# Altium footprint library PLS-xx.PcbLib: 32 footprints (part 1 of 2)
Each footprint in its own frame and in the unit in brackets; x right, y up, seen from the top. Pads: shape width x height; smd on the part's side, far side on the other; paste and mask are expansions set on the pad; w line width, h text height; cw(c..) or ccw(c..) is an arc to the next point about the centre after c.
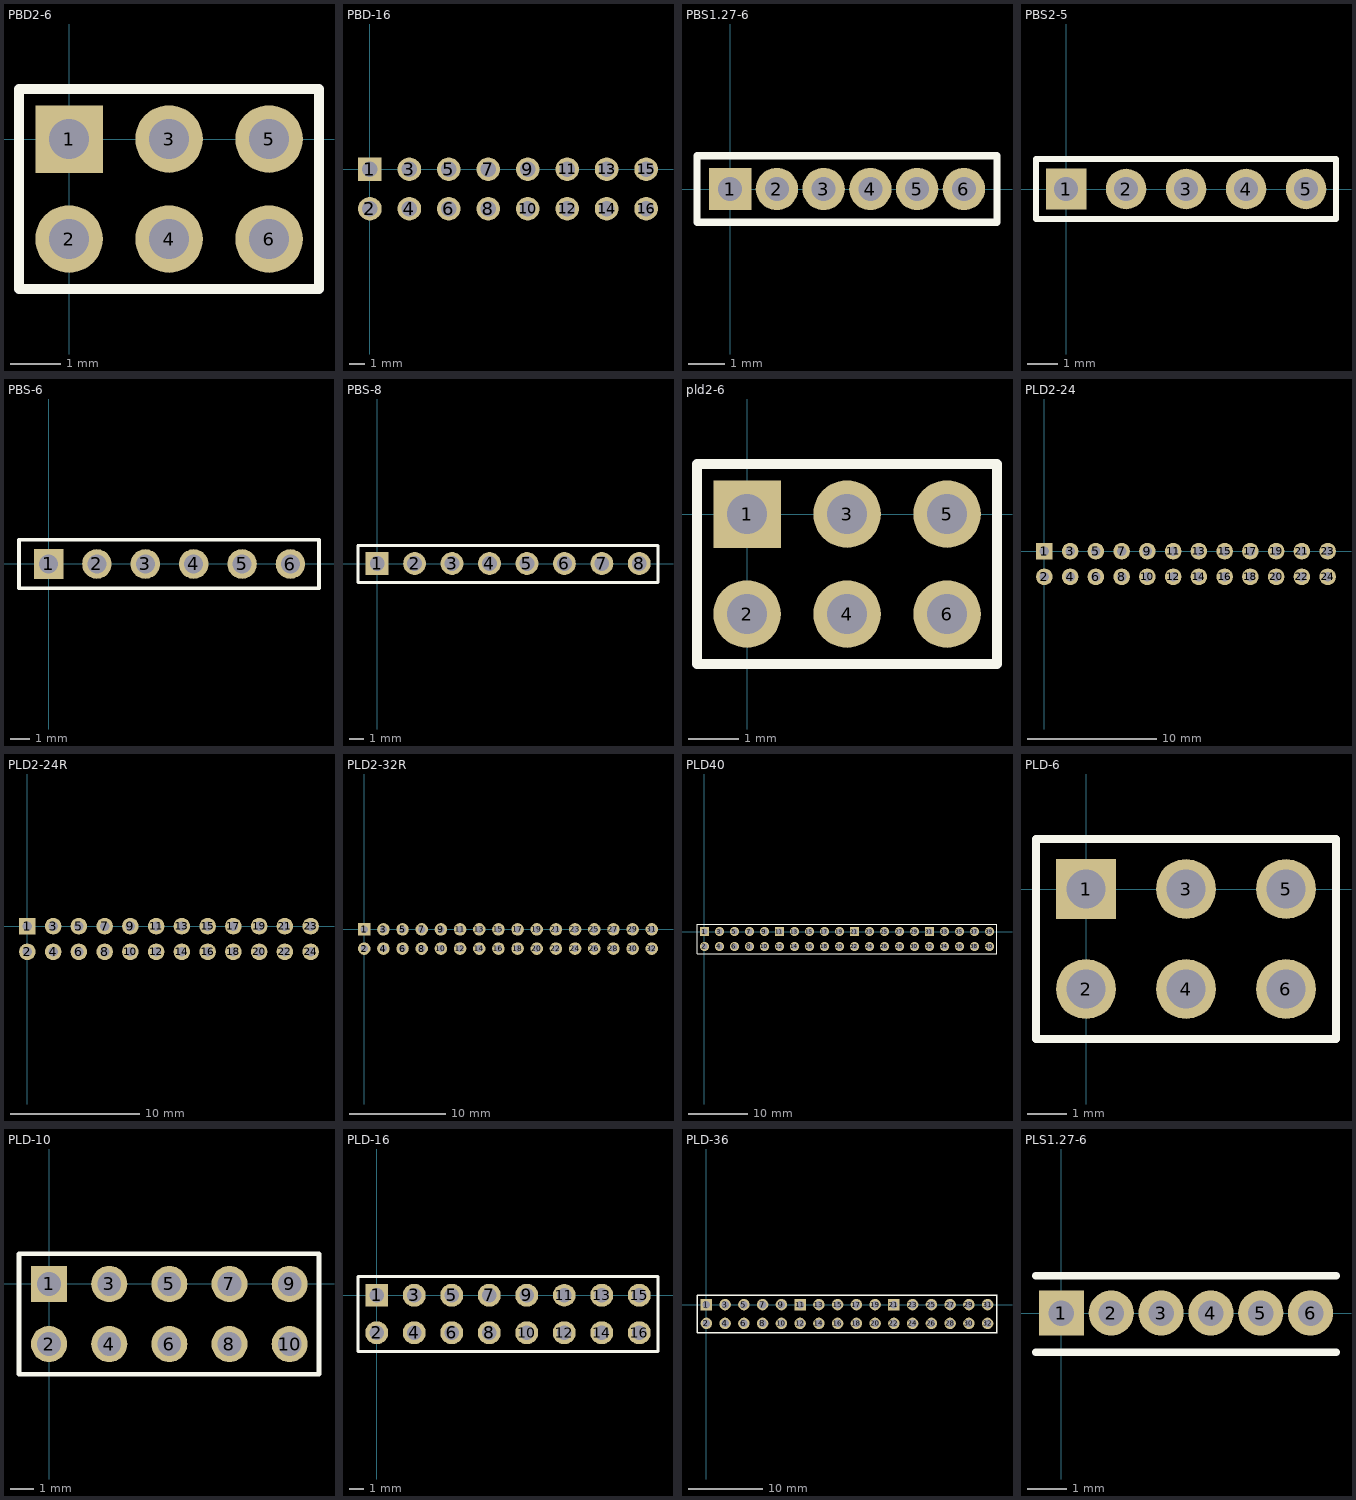
[diagram p0: the footprints below, top view; thin cyan lines are the x and y axes]

## PBD2-6 [mm]
pads (6):
  rect 1.35x1.35 hole 0.8: 1(0,0)
  round 1.35 hole 0.8: 2(0,-2) 3(2,0) 4(2,-2) 5(4,0) 6(4,-2)
Top Overlay:
  lines w0.2: -1,-3 5,-3 5,1 -1,1 -1,-3
3D body "User Library-PBD2-6.step": height 4.5, standoff -3.15, extent -1,-3 5,1

## PBD-16 [mil]
pads (16):
  rect 60x60 hole 39.37: 1(0,0)
  round 60 hole 39.37: 2(0,-100) 3(100,0) 4(100,-100) 5(200,0) 6(200,-100) 7(300,0) 8(300,-100) 9(400,0) 10(400,-100) 11(500,0) 12(500,-100) 13(600,0) 14(600,-100) 15(700,0) 16(700,-100)

## PBS1.27-6 [mm]
pads (6):
  rect 1.15x1.15 hole 0.65: 1(0,0)
  round 1.15 hole 0.65: 2(1.27,0) 3(2.54,0) 4(3.81,0) 5(5.08,0) 6(6.35,0)
Top Overlay:
  lines w0.2: -0.9,-0.9 -0.9,0.9 7.25,0.9 7.25,-0.9 -0.9,-0.9
3D body "PBD1.27-6.stp": height 3.4, standoff -2.5, extent -0.885,-0.9 7.235,0.9

## PBS2-5 [mm]
pads (5):
  rect 1.35x1.35 hole 0.8: 1(0,0)
  round 1.35 hole 0.8: 2(2,0) 3(4,0) 4(6,0) 5(8,0)
Top Overlay:
  lines w0.2: -1,-1 -1,1 9,1 9,-1 -1,-1
3D body "User Library-PBS2-5.STEP": height 4.3, standoff -3.15, extent -1,-1 9,1

## PBS-6 [mm]
pads (6):
  rect 1.55x1.55 hole 1: 1(0,0)
  round 1.55 hole 1: 2(2.54,0) 3(5.08,0) 4(7.62,0) 5(10.16,0) 6(12.7,0)
Top Overlay:
  lines w0.2: -1.55,-1.27 14.2,-1.27 14.2,1.27 -1.55,1.27 -1.55,-1.27
3D body "PBD-6.stp": height 8.5, standoff -3, extent -1.54,-1.24 14.2,1.3

## PBS-8 [mm]
pads (8):
  rect 1.55x1.55 hole 1: 1(0,0)
  round 1.55 hole 1: 2(2.54,0) 3(5.08,0) 4(7.62,0) 5(10.16,0) 6(12.7,0) 7(15.24,0) 8(17.779,0)
Top Overlay:
  lines w0.2: -1.3,1.24 19.05,1.24 19.05,-1.3 -1.3,-1.3 -1.3,1.24 ; -1.3,1.24 -1.3,1.24
3D body "User Library-PBS-08.step": height 8.4, standoff -3.2, extent -1.27,-1.27 19.05,1.27

## pld2-6 [mm]
pads (6):
  rect 1.35x1.35 hole 0.8: 1(0,0)
  round 1.35 hole 0.8: 2(0,-2) 3(2,0) 4(2,-2) 5(4,0) 6(4,-2)
Top Overlay:
  lines w0.2: -1,-3 5,-3 5,1 -1,1 -1,-3
3D body "User Library-pls2-1.step": height 2.3, standoff -6.5, extent -1,-3 1,-1
3D body "User Library-pls2-1.step": height 2.3, standoff -6.5, extent -1,-1 1,1
3D body "User Library-pls2-1.step": height 2.3, standoff -6.5, extent 1,-1 3,1
3D body "User Library-pls2-1.step": height 2.3, standoff -6.5, extent 1,-3 3,-1
3D body "User Library-pls2-1.step": height 2.3, standoff -6.5, extent 3,-3 5,-1
3D body "User Library-pls2-1.step": height 2.3, standoff -6.5, extent 3,-1 5,1

## PLD2-24 [mm]
pads (24):
  rect 1.3x1.3 hole 0.75: 1(0,0)
  round 1.3 hole 0.75: 2(0,-2) 3(2,0) 4(2,-2) 5(4,0) 6(4,-2) 7(6,0) 8(6,-2) 9(8,0) 10(8,-2) 11(10,0) 12(10,-2) 13(12,0) 14(12,-2) 15(14,0) 16(14,-2) 17(16,0) 18(16,-2) 19(18,0) 20(18,-2) 21(20,0) 22(20,-2) 23(22,0) 24(22,-2)

## PLD2-24R [mm]
pads (24):
  rect 1.3x1.3 hole 0.75: 1(0,0)
  round 1.3 hole 0.75: 2(0,-2) 3(2,0) 4(2,-2) 5(4,0) 6(4,-2) 7(6,0) 8(6,-2) 9(8,0) 10(8,-2) 11(10,0) 12(10,-2) 13(12,0) 14(12,-2) 15(14,0) 16(14,-2) 17(16,0) 18(16,-2) 19(18,0) 20(18,-2) 21(20,0) 22(20,-2) 23(22,0) 24(22,-2)
3D body "User Library-PLD2-xx-R.step": height 4, standoff -2.8, extent -1.016,-8.996 22.984,0.254

## PLD2-32R [mm]
pads (32):
  rect 1.3x1.3 hole 0.75: 1(0,0)
  round 1.3 hole 0.75: 2(0,-2) 3(2,0) 4(2,-2) 5(4,0) 6(4,-2) 7(6,0) 8(6,-2) 9(8,0) 10(8,-2) 11(10,0) 12(10,-2) 13(12,0) 14(12,-2) 15(14,0) 16(14,-2) 17(16,0) 18(16,-2) 19(18,0) 20(18,-2) 21(20,0) 22(20,-2) 23(22,0) 24(22,-2) 25(24,0) 26(24,-2) 27(26,0) 28(26,-2) 29(28,0) 30(28,-2) 31(30,0) 32(30,-2)
3D body "User Library-PLD2-xx-R (1).step": height 4, standoff -2.8, extent -1,-9.048 31,0.202

## PLD40 [mm]
pads (40):
  rect 1.55x1.55 hole 1: 1(0,0) 21(25.4,0) 31(38.1,0)
  round 1.55 hole 1: 2(0,-2.54) 3(2.54,0) 4(2.54,-2.54) 5(5.08,0) 6(5.08,-2.54) 7(7.62,0) 8(7.62,-2.54) 9(10.16,0) 10(10.16,-2.54) 12(12.7,-2.54) 13(15.24,0) 14(15.24,-2.54) 15(17.78,0) 16(17.78,-2.54) 17(20.32,0) 18(20.32,-2.54) 19(22.86,0) 20(22.86,-2.54) 22(25.4,-2.54) 23(27.94,0) 24(27.94,-2.54) 25(30.48,0) 26(30.48,-2.54) 27(33.02,0) 28(33.02,-2.54) 29(35.56,0) 30(35.56,-2.54) 32(38.1,-2.54) 33(40.64,0) 34(40.64,-2.54) 35(43.18,0) 36(43.18,-2.54) 37(45.72,0) 38(45.72,-2.54) 39(48.26,0) 40(48.26,-2.54)
  rect 1.55x1.524 hole 1: 11(12.7,0)
Top Overlay:
  lines w0.2: -1.27,-3.81 49.53,-3.81 49.53,1.27 -1.27,1.27 -1.27,-3.81
3D body "User Library-PBD2_54-40.step": height 8.4, standoff -2.7, extent -1.3,-3.84 49.5,1.24

## PLD-6 [mil]
pads (6):
  rect 60x60 hole 39.37: 1(0,0)
  round 60 hole 39.37: 2(0,-100) 3(100,0) 4(100,-100) 5(200,0) 6(200,-100)
Top Overlay:
  lines w7.87: -50,-150 -50,50 250,50 250,-150 -50,-150
3D body "User Library-PLS-1.step": height 332.28, standoff -118.11, extent -50,-150 50,-50
3D body "User Library-PLS-1.step": height 332.28, standoff -118.11, extent 50,-150 150,-50
3D body "User Library-PLS-1.step": height 332.28, standoff -118.11, extent 150,-150 250,-50
3D body "User Library-PLS-1.step": height 332.28, standoff -118.11, extent 150,-50 250,50
3D body "User Library-PLS-1.step": height 332.28, standoff -118.11, extent 50,-50 150,50
3D body "User Library-PLS-1.step": height 332.28, standoff -118.11, extent -50,-50 50,50

## PLD-10 [mil]
pads (10):
  rect 60x60 hole 39.37: 1(0.01,0)
  round 60 hole 39.37: 2(0.01,-100) 3(100.01,0) 4(100.01,-100) 5(200.01,0) 6(200,-100) 7(300,0) 8(300,-100) 9(400.01,0.01) 10(400,-99.99)
Top Overlay:
  lines w7.87: -49.99,-150 -49.99,50 448.82,50 448.82,-150 -49.99,-150
3D body "User Library-PLS-1.step": height 332.28, standoff -118.11, extent 350.01,-49.99 450.01,50.01
3D body "User Library-PLS-1.step": height 332.28, standoff -118.11, extent 350,-149.99 450,-49.99
3D body "User Library-PLS-1.step": height 332.28, standoff -118.11, extent 250,-50 350,50
3D body "User Library-PLS-1.step": height 332.28, standoff -118.11, extent 250,-150 350,-50
3D body "User Library-PLS-1.step": height 332.28, standoff -118.11, extent -49.99,-150 50.01,-50
3D body "User Library-PLS-1.step": height 332.28, standoff -118.11, extent 50.01,-150 150.01,-50
3D body "User Library-PLS-1.step": height 332.28, standoff -118.11, extent 150,-150 250,-50
3D body "User Library-PLS-1.step": height 332.28, standoff -118.11, extent 150.01,-50 250.01,50
3D body "User Library-PLS-1.step": height 332.28, standoff -118.11, extent 50.01,-50 150.01,50
3D body "User Library-PLS-1.step": height 332.28, standoff -118.11, extent -49.99,-50 50.01,50

## PLD-16 [mm]
pads (16):
  rect 1.55x1.55 hole 1: 1(0,0)
  round 1.55 hole 1: 2(0,-2.54) 3(2.54,0) 4(2.54,-2.54) 5(5.08,0) 6(5.08,-2.54) 7(7.62,0) 8(7.62,-2.54) 9(10.16,0) 10(10.16,-2.54) 12(12.7,-2.54) 13(15.24,0) 14(15.24,-2.54) 15(17.78,0) 16(17.78,-2.54)
  oval 1.55x1.524 hole 1: 11(12.7,0)
Top Overlay:
  lines w0.2: -1.27,-3.81 -1.27,1.27 19.05,1.27 19.05,-3.81 -1.27,-3.81
3D body "User Library-PLS-1.step": height 8.44, standoff -3, extent 3.81,-1.27 6.35,1.27
3D body "User Library-PLS-1.step": height 8.44, standoff -3, extent 1.27,-3.81 3.81,-1.27
3D body "User Library-PLS-1.step": height 8.44, standoff -3, extent 1.27,-1.27 3.81,1.27
3D body "User Library-PLS-1.step": height 8.44, standoff -3, extent -1.27,-3.81 1.27,-1.27
3D body "User Library-PLS-1.step": height 8.44, standoff -3, extent -1.27,-1.27 1.27,1.27
3D body "User Library-PLS-1.step": height 8.44, standoff -3, extent 3.81,-3.81 6.35,-1.27
3D body "User Library-PLS-1.step": height 8.44, standoff -3, extent 6.35,-1.27 8.89,1.27
3D body "User Library-PLS-1.step": height 8.44, standoff -3, extent 6.35,-3.81 8.89,-1.27
3D body "User Library-PLS-1.step": height 8.44, standoff -3, extent 8.89,-1.27 11.43,1.27
3D body "User Library-PLS-1.step": height 8.44, standoff -3, extent 8.89,-3.81 11.43,-1.27
3D body "User Library-PLS-1.step": height 8.44, standoff -3, extent 11.43,-1.27 13.97,1.27
3D body "User Library-PLS-1.step": height 8.44, standoff -3, extent 11.43,-3.81 13.97,-1.27
3D body "User Library-PLS-1.step": height 8.44, standoff -3, extent 13.97,-1.27 16.51,1.27
3D body "User Library-PLS-1.step": height 8.44, standoff -3, extent 13.97,-3.81 16.51,-1.27
3D body "User Library-PLS-1.step": height 8.44, standoff -3, extent 16.51,-1.27 19.05,1.27
3D body "User Library-PLS-1.step": height 8.44, standoff -3, extent 16.51,-3.81 19.05,-1.27

## PLD-36 [mm]
pads (32):
  rect 1.55x1.55 hole 1: 1(0,0) 21(25.4,0)
  round 1.55 hole 1: 2(0,-2.54) 3(2.54,0) 4(2.54,-2.54) 5(5.08,0) 6(5.08,-2.54) 7(7.62,0) 8(7.62,-2.54) 9(10.16,0) 10(10.16,-2.54) 12(12.7,-2.54) 13(15.24,0) 14(15.24,-2.54) 15(17.78,0) 16(17.78,-2.54) 17(20.32,0) 18(20.32,-2.54) 19(22.86,0) 20(22.86,-2.54) 22(25.4,-2.54) 23(27.94,0) 24(27.94,-2.54) 25(30.48,0) 26(30.48,-2.54) 27(33.02,0) 28(33.02,-2.54) 29(35.56,0) 30(35.56,-2.54) 31(38.1,0) 32(38.1,-2.54)
  rect 1.55x1.524 hole 1: 11(12.7,0)
Top Overlay:
  lines w0.2: -1.27,-3.81 -1.27,1.27 39.37,1.27 39.37,-3.81 -1.27,-3.81
3D body "User Library-PLS-1.step": height 8.44, standoff -3, extent 3.81,-1.27 6.35,1.27
3D body "User Library-PLS-1.step": height 8.44, standoff -3, extent 1.27,-3.81 3.81,-1.27
3D body "User Library-PLS-1.step": height 8.44, standoff -3, extent 1.27,-1.27 3.81,1.27
3D body "User Library-PLS-1.step": height 8.44, standoff -3, extent -1.27,-3.81 1.27,-1.27
3D body "User Library-PLS-1.step": height 8.44, standoff -3, extent -1.27,-1.27 1.27,1.27
3D body "User Library-PLS-1.step": height 8.44, standoff -3, extent 3.81,-3.81 6.35,-1.27
3D body "User Library-PLS-1.step": height 8.44, standoff -3, extent 6.35,-1.27 8.89,1.27
3D body "User Library-PLS-1.step": height 8.44, standoff -3, extent 6.35,-3.81 8.89,-1.27
3D body "User Library-PLS-1.step": height 8.44, standoff -3, extent 8.89,-1.27 11.43,1.27
3D body "User Library-PLS-1.step": height 8.44, standoff -3, extent 8.89,-3.81 11.43,-1.27
3D body "User Library-PLS-1.step": height 8.44, standoff -3, extent 11.43,-1.27 13.97,1.27
3D body "User Library-PLS-1.step": height 8.44, standoff -3, extent 11.43,-3.81 13.97,-1.27
3D body "User Library-PLS-1.step": height 8.44, standoff -3, extent 13.97,-1.27 16.51,1.27
3D body "User Library-PLS-1.step": height 8.44, standoff -3, extent 13.97,-3.81 16.51,-1.27
3D body "User Library-PLS-1.step": height 8.44, standoff -3, extent 16.51,-1.27 19.05,1.27
3D body "User Library-PLS-1.step": height 8.44, standoff -3, extent 16.51,-3.81 19.05,-1.27
3D body "User Library-PLS-1.step": height 8.44, standoff -3, extent 19.05,-3.81 21.59,-1.27
3D body "User Library-PLS-1.step": height 8.44, standoff -3, extent 19.05,-1.27 21.59,1.27
3D body "User Library-PLS-1.step": height 8.44, standoff -3, extent 21.59,-3.81 24.13,-1.27
3D body "User Library-PLS-1.step": height 8.44, standoff -3, extent 21.59,-1.27 24.13,1.27
3D body "User Library-PLS-1.step": height 8.44, standoff -3, extent 24.13,-3.81 26.67,-1.27
3D body "User Library-PLS-1.step": height 8.44, standoff -3, extent 24.13,-1.27 26.67,1.27
3D body "User Library-PLS-1.step": height 8.44, standoff -3, extent 26.67,-3.81 29.21,-1.27
3D body "User Library-PLS-1.step": height 8.44, standoff -3, extent 26.67,-1.27 29.21,1.27
3D body "User Library-PLS-1.step": height 8.44, standoff -3, extent 29.21,-3.81 31.75,-1.27
3D body "User Library-PLS-1.step": height 8.44, standoff -3, extent 29.21,-1.27 31.75,1.27
3D body "User Library-PLS-1.step": height 8.44, standoff -3, extent 31.75,-3.81 34.29,-1.27
3D body "User Library-PLS-1.step": height 8.44, standoff -3, extent 34.29,-3.81 36.83,-1.27
3D body "User Library-PLS-1.step": height 8.44, standoff -3, extent 34.29,-1.27 36.83,1.27
3D body "User Library-PLS-1.step": height 8.44, standoff -3, extent 36.83,-3.81 39.37,-1.27
3D body "User Library-PLS-1.step": height 8.44, standoff -3, extent 36.83,-1.27 39.37,1.27
3D body "User Library-PLS-1.step": height 8.44, standoff -3, extent 31.75,-1.27 34.29,1.27

## PLS1.27-6 [mm]
pads (6):
  rect 1.15x1.153 hole 0.65: 1(0,0)
  oval 1.15x1.153 hole 0.65: 2(1.27,0) 3(2.54,0) 4(3.81,0) 5(5.08,0) 6(6.35,0)
Top Overlay:
  lines w0.2: -0.65,-1 7,-1 ; -0.65,0.95 7,0.95
3D body "PLL1_27-1.stp": height 5.5, standoff -2.3, extent 5.715,-1 6.985,0.93
3D body "PLL1_27-1.stp": height 5.5, standoff -2.3, extent 4.445,-1 5.715,0.93
3D body "PLL1_27-1.stp": height 5.5, standoff -2.3, extent 3.175,-1 4.445,0.93
3D body "PLL1_27-1.stp": height 5.5, standoff -2.3, extent 1.905,-1 3.175,0.93
3D body "PLL1_27-1.stp": height 5.5, standoff -2.3, extent 0.635,-1 1.905,0.93
3D body "PLL1_27-1.stp": height 5.5, standoff -2.3, extent -0.635,-1 0.635,0.93